# Altium schematic symbol library ESP32-S3-MINI-1-N8.SchLib: 1 symbol
Pins are listed as number, name and electrical type; pins without a type are passive.

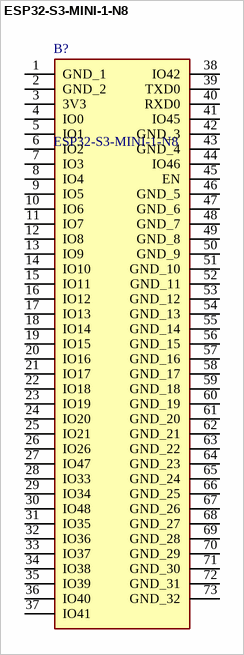
[diagram p0: symbol ESP32-S3-MINI-1-N8]

## ESP32-S3-MINI-1-N8
designator B?
WiFi Development Tools - 802.11 [Engineering Samples] SMD Module, ESP32-S3FN8, 8 MB SPI Flash, PCB Antenna; Manufacturer_Name: Espressif Systems; Geometry.Height: 2.55mm; Manufacturer_Part_Number: ESP32-S3-MINI-1-N8; Mouser Part Number: 356-ESP32-S3-MINI1N8; Mouser Price/Stock: https://www.mouser.co.uk/ProductDetail/Espressif-Systems/ESP32-S3-MINI-1-N8?qs=XAiT9M5g4x82rl6F%2FIYUQg%3D%3D; Arrow Part Number: *; Arrow Price/Stock: *; Datasheet Link: https://www.espressif.com/sites/default/files/documentation/esp32-s3-mini-1_mini-1u_datasheet_en.pdf
footprint ESP32S3MINI1N8
pins: 1 GND_1, 2 GND_2, 3 3V3, 4 IO0, 5 IO1, 6 IO2, 7 IO3, 8 IO4, 9 IO5, 10 IO6, 11 IO7, 12 IO8, 13 IO9, 14 IO10, 15 IO11, 16 IO12, 17 IO13, 18 IO14, 19 IO15, 20 IO16, 21 IO17, 22 IO18, 23 IO19, 24 IO20, 25 IO21, 26 IO26, 27 IO47, 28 IO33, 29 IO34, 30 IO48, 31 IO35, 32 IO36, 33 IO37, 34 IO38, 35 IO39, 36 IO40, 37 IO41, 38 IO42, 39 TXD0, 40 RXD0, 41 IO45, 42 GND_3, 43 GND_4, 44 IO46, 45 EN, 46 GND_5, 47 GND_6, 48 GND_7, 49 GND_8, 50 GND_9, 51 GND_10, 52 GND_11, 53 GND_12, 54 GND_13, 55 GND_14, 56 GND_15, 57 GND_16, 58 GND_17, 59 GND_18, 60 GND_19, 61 GND_20, 62 GND_21, 63 GND_22, 64 GND_23, 65 GND_24, 66 GND_25, 67 GND_26, 68 GND_27, 69 GND_28, 70 GND_29, 71 GND_30, 72 GND_31, 73 GND_32